# Altium footprint library ST Microprocessor 16-Bit.PcbLib: 5 footprints
Each footprint in its own frame and in the unit in brackets; x right, y up, seen from the top. Pads: shape width x height; smd on the part's side, far side on the other; paste and mask are expansions set on the pad; w line width, h text height; cw(c..) or ccw(c..) is an arc to the next point about the centre after c.
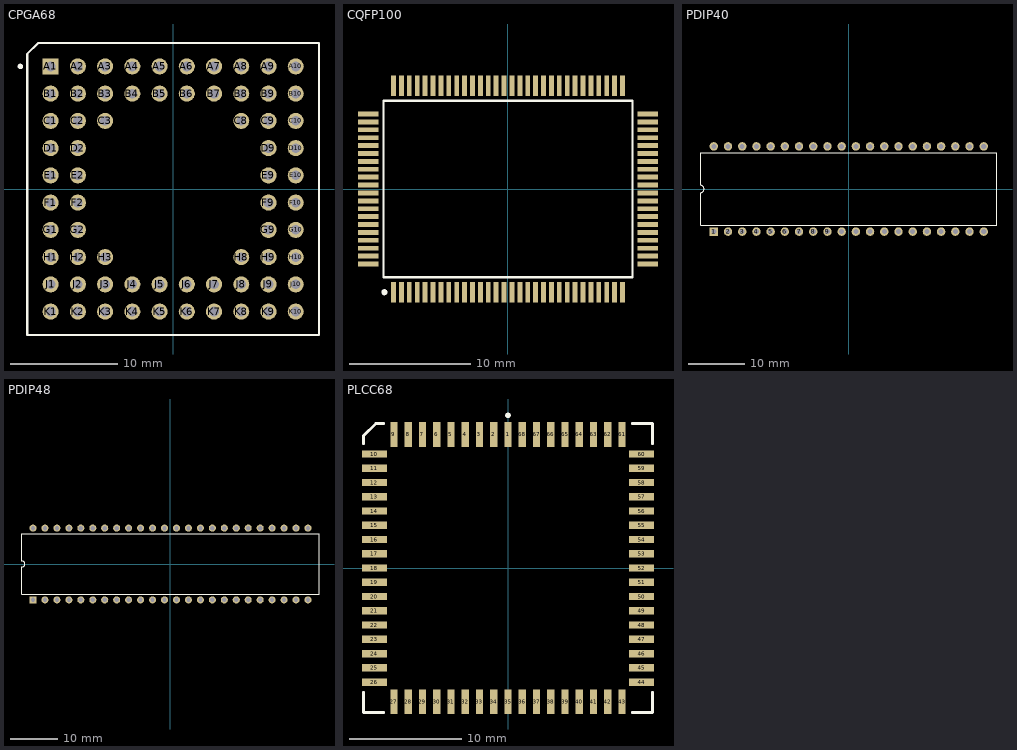
[diagram p0: the footprints below, top view; thin cyan lines are the x and y axes]

## CPGA68 [mm] "PGA; 68 Leads; Body 27 x 27 mm; Plain Grid"
height 5.47
pads (68):
  rect 1.5x1.5 hole 0.9: A1(-11.43,11.43)
  round 1.5 hole 0.9: A2(-8.89,11.43) A3(-6.35,11.43) A4(-3.81,11.43) A5(-1.27,11.43) A6(1.27,11.43) A7(3.81,11.43) A8(6.35,11.43) A9(8.89,11.43) A10(11.43,11.43) B1(-11.43,8.89) B2(-8.89,8.89) B3(-6.35,8.89) B4(-3.81,8.89) B5(-1.27,8.89) B6(1.27,8.89) B7(3.81,8.89) B8(6.35,8.89) B9(8.89,8.89) B10(11.43,8.89) C1(-11.43,6.35) C2(-8.89,6.35) C3(-6.35,6.35) C8(6.35,6.35) C9(8.89,6.35) C10(11.43,6.35) D1(-11.43,3.81) D2(-8.89,3.81) D9(8.89,3.81) D10(11.43,3.81) E1(-11.43,1.27) E2(-8.89,1.27) E9(8.89,1.27) E10(11.43,1.27) F1(-11.43,-1.27) F2(-8.89,-1.27) F9(8.89,-1.27) F10(11.43,-1.27) G1(-11.43,-3.81) G2(-8.89,-3.81) G9(8.89,-3.81) G10(11.43,-3.81) H1(-11.43,-6.35) H2(-8.89,-6.35) H3(-6.35,-6.35) H8(6.35,-6.35) H9(8.89,-6.35) H10(11.43,-6.35) J1(-11.43,-8.89) J2(-8.89,-8.89) J3(-6.35,-8.89) J4(-3.81,-8.89) J5(-1.27,-8.89) J6(1.27,-8.89) J7(3.81,-8.89) J8(6.35,-8.89) J9(8.89,-8.89) J10(11.43,-8.89) K1(-11.43,-11.43) K2(-8.89,-11.43) K3(-6.35,-11.43) K4(-3.81,-11.43) K5(-1.27,-11.43) K6(1.27,-11.43) K7(3.81,-11.43) K8(6.35,-11.43) K9(8.89,-11.43) K10(11.43,-11.43)
Top Overlay:
  circle w0.25: c-14.25,11.43 r0.125
  lines w0.2: -13.6,-13.6 13.6,-13.6 13.6,13.6 -12.6,13.6 -13.6,12.6 -13.6,-13.6

## CQFP100 [mm] "QFP, Ceramic; 100 Leads; Body 14 x 20 mm; Pitch 0.65 mm"
height 3.4
pads (100):
  rect 0.4x1.7 smd: 1(-9.425,-8.5) 2(-8.775,-8.5) 3(-8.125,-8.5) 4(-7.475,-8.5) 5(-6.825,-8.5) 6(-6.175,-8.5) 7(-5.525,-8.5) 8(-4.875,-8.5) 9(-4.225,-8.5) 10(-3.575,-8.5) 11(-2.925,-8.5) 12(-2.275,-8.5) 13(-1.625,-8.5) 14(-0.975,-8.5) 15(-0.325,-8.5) 16(0.325,-8.5) 17(0.975,-8.5) 18(1.625,-8.5) 19(2.275,-8.5) 20(2.925,-8.5) 21(3.575,-8.5) 22(4.225,-8.5) 23(4.875,-8.5) 24(5.525,-8.5) 25(6.175,-8.5) 26(6.825,-8.5) 27(7.475,-8.5) 28(8.125,-8.5) 29(8.775,-8.5) 30(9.425,-8.5) 51(9.425,8.5) 52(8.775,8.5) 53(8.125,8.5) 54(7.475,8.5) 55(6.825,8.5) 56(6.175,8.5) 57(5.525,8.5) 58(4.875,8.5) 59(4.225,8.5) 60(3.575,8.5) 61(2.925,8.5) 62(2.275,8.5) 63(1.625,8.5) 64(0.975,8.5) 65(0.325,8.5) 66(-0.325,8.5) 67(-0.975,8.5) 68(-1.625,8.5) 69(-2.275,8.5) 70(-2.925,8.5) 71(-3.575,8.5) 72(-4.225,8.5) 73(-4.875,8.5) 74(-5.525,8.5) 75(-6.175,8.5) 76(-6.825,8.5) 77(-7.475,8.5) 78(-8.125,8.5) 79(-8.775,8.5) 80(-9.425,8.5)
  rect 1.7x0.4 smd: 31(11.5,-6.175) 32(11.5,-5.525) 33(11.5,-4.875) 34(11.5,-4.225) 35(11.5,-3.575) 36(11.5,-2.925) 37(11.5,-2.275) 38(11.5,-1.625) 39(11.5,-0.975) 40(11.5,-0.325) 41(11.5,0.325) 42(11.5,0.975) 43(11.5,1.625) 44(11.5,2.275) 45(11.5,2.925) 46(11.5,3.575) 47(11.5,4.225) 48(11.5,4.875) 49(11.5,5.525) 50(11.5,6.175) 81(-11.5,6.175) 82(-11.5,5.525) 83(-11.5,4.875) 84(-11.5,4.225) 85(-11.5,3.575) 86(-11.5,2.925) 87(-11.5,2.275) 88(-11.5,1.625) 89(-11.5,0.975) 90(-11.5,0.325) 91(-11.5,-0.325) 92(-11.5,-0.975) 93(-11.5,-1.625) 94(-11.5,-2.275) 95(-11.5,-2.925) 96(-11.5,-3.575) 97(-11.5,-4.225) 98(-11.5,-4.875) 99(-11.5,-5.525) 100(-11.5,-6.175)
Top Overlay:
  circle w0.25: c-10.175,-8.5 r0.125
  lines w0.2: -10.25,-7.25 -10.25,7.25 10.25,7.25 10.25,-7.25 -10.25,-7.25

## PDIP40 [mm] "DIP, Plastic; 40 Leads; Row Spacing 15.24 mm; Pitch 2.54 mm"
height 4.45
pads (40):
  rect 1.5x1.5 hole 0.9: 1(-24.13,-7.62)
  round 1.5 hole 0.9: 2(-21.59,-7.62) 3(-19.05,-7.62) 4(-16.51,-7.62) 5(-13.97,-7.62) 6(-11.43,-7.62) 7(-8.89,-7.62) 8(-6.35,-7.62) 9(-3.81,-7.62) 10(-1.27,-7.62) 11(1.27,-7.62) 12(3.81,-7.62) 13(6.35,-7.62) 14(8.89,-7.62) 15(11.43,-7.62) 16(13.97,-7.62) 17(16.51,-7.62) 18(19.05,-7.62) 19(21.59,-7.62) 20(24.13,-7.62) 21(24.13,7.62) 22(21.59,7.62) 23(19.05,7.62) 24(16.51,7.62) 25(13.97,7.62) 26(11.43,7.62) 27(8.89,7.62) 28(6.35,7.62) 29(3.81,7.62) 30(1.27,7.62) 31(-1.27,7.62) 32(-3.81,7.62) 33(-6.35,7.62) 34(-8.89,7.62) 35(-11.43,7.62) 36(-13.97,7.62) 37(-16.51,7.62) 38(-19.05,7.62) 39(-21.59,7.62) 40(-24.13,7.62)
Top Overlay:
  lines w0.2: -26.5,-6.45 26.5,-6.45 26.5,6.45 -26.5,6.45 -26.5,0.635 cw(c-26.5,0) -26.5,-0.635 -26.5,-6.45

## PDIP48 [mm] "DIP, Plastic; 48 Leads; Row Spacing 15.24 mm; Pitch 2.54 mm"
height 4.8
pads (48):
  rect 1.5x1.5 hole 0.9: 1(-29.21,-7.62)
  round 1.5 hole 0.9: 2(-26.67,-7.62) 3(-24.13,-7.62) 4(-21.59,-7.62) 5(-19.05,-7.62) 6(-16.51,-7.62) 7(-13.97,-7.62) 8(-11.43,-7.62) 9(-8.89,-7.62) 10(-6.35,-7.62) 11(-3.81,-7.62) 12(-1.27,-7.62) 13(1.27,-7.62) 14(3.81,-7.62) 15(6.35,-7.62) 16(8.89,-7.62) 17(11.43,-7.62) 18(13.97,-7.62) 19(16.51,-7.62) 20(19.05,-7.62) 21(21.59,-7.62) 22(24.13,-7.62) 23(26.67,-7.62) 24(29.21,-7.62) 25(29.21,7.62) 26(26.67,7.62) 27(24.13,7.62) 28(21.59,7.62) 29(19.05,7.62) 30(16.51,7.62) 31(13.97,7.62) 32(11.43,7.62) 33(8.89,7.62) 34(6.35,7.62) 35(3.81,7.62) 36(1.27,7.62) 37(-1.27,7.62) 38(-3.81,7.62) 39(-6.35,7.62) 40(-8.89,7.62) 41(-11.43,7.62) 42(-13.97,7.62) 43(-16.51,7.62) 44(-19.05,7.62) 45(-21.59,7.62) 46(-24.13,7.62) 47(-26.67,7.62) 48(-29.21,7.62)
Top Overlay:
  lines w0.2: -31.55,-6.45 31.55,-6.45 31.55,6.45 -31.55,6.45 -31.55,0.635 cw(c-31.55,0) -31.55,-0.635 -31.55,-6.45

## PLCC68 [mm] "Leaded Chip Carrier; 68 Leads; Body 24.3 x 24.3 mm"
height 5.08
pads (68):
  rect 0.65x2.2 smd: 1(0,11.9) 2(-1.27,11.9) 3(-2.54,11.9) 4(-3.81,11.9) 5(-5.08,11.9) 6(-6.35,11.9) 7(-7.62,11.9) 8(-8.89,11.9) 9(-10.16,11.9) 27(-10.16,-11.9) 28(-8.89,-11.9) 29(-7.62,-11.9) 30(-6.35,-11.9) 31(-5.08,-11.9) 32(-3.81,-11.9) 33(-2.54,-11.9) 34(-1.27,-11.9) 35(0,-11.9) 36(1.27,-11.9) 37(2.54,-11.9) 38(3.81,-11.9) 39(5.08,-11.9) 40(6.35,-11.9) 41(7.62,-11.9) 42(8.89,-11.9) 43(10.16,-11.9) 61(10.16,11.9) 62(8.89,11.9) 63(7.62,11.9) 64(6.35,11.9) 65(5.08,11.9) 66(3.81,11.9) 67(2.54,11.9) 68(1.27,11.9)
  rect 2.2x0.65 smd: 10(-11.9,10.16) 11(-11.9,8.89) 12(-11.9,7.62) 13(-11.9,6.35) 14(-11.9,5.08) 15(-11.9,3.81) 16(-11.9,2.54) 17(-11.9,1.27) 18(-11.9,0) 19(-11.9,-1.27) 20(-11.9,-2.54) 21(-11.9,-3.81) 22(-11.9,-5.08) 23(-11.9,-6.35) 24(-11.9,-7.62) 25(-11.9,-8.89) 26(-11.9,-10.16) 44(11.9,-10.16) 45(11.9,-8.89) 46(11.9,-7.62) 47(11.9,-6.35) 48(11.9,-5.08) 49(11.9,-3.81) 50(11.9,-2.54) 51(11.9,-1.27) 52(11.9,0) 53(11.9,1.27) 54(11.9,2.54) 55(11.9,3.81) 56(11.9,5.08) 57(11.9,6.35) 58(11.9,7.62) 59(11.9,8.89) 60(11.9,10.16)
Top Overlay:
  circle w0.25: c0,13.6 r0.125
  lines w0.25: -12.875,-11.058 -12.875,-12.863 -11.07,-12.863 ; -12.875,11.083 -12.875,11.788 -11.775,12.888 -11.07,12.888 ; 11.07,-12.863 12.875,-12.863 12.875,-11.058 ; 11.07,12.888 12.875,12.888 12.875,11.083